# EAGLE library part STEP-UP (library step-up-Pololu)
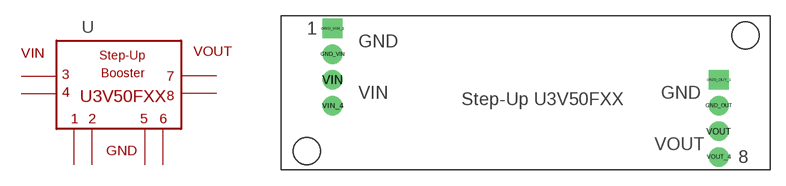
[diagram p0: symbol with the pads of U3V50F12; footprint U3V50F12]

Designator prefix -

## STEP-UP  [U3V50F12]
GND_OUT  GND_VOUT
GND_OUT_1  GND_OUT1
GND_VIN  GND_VIN
GND_VIN_1  GND_VIN1
VIN  VIN
VIN_4  VIN4
VOUT  VOUT
VOUT_4  VOUT4

## Footprint U3V50F12 (pad centres in mm)
drill 1 pad 1.93: GND_OUT 17.78,-1.27; GND_VIN -20.32,3.81; VIN -20.32,1.27; VIN_4 -20.32,-1.27; VOUT 17.78,-3.81; VOUT_4 17.78,-6.35
drill 1 pad 1.93 square: GND_OUT_1 17.78,1.27; GND_VIN_1 -20.32,6.35